# EAGLE library part PICO-12_RA_1.50MM (library all-connectors)
PICO-12_RA_1.50MM Molex 1.50mm pitch / Wire-to-board system offers an ideal combination of low profile, high current and durable locking for any application requiring space savings and secure mating retention
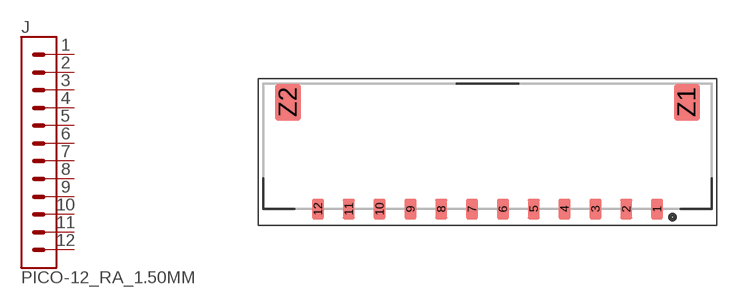
[diagram p29: symbol with the pads of PICO-12_RA_1.50MM; footprint PICO-12_RA_1.50MM]

Designator prefix J

## PICO-12_RA_1.50MM  [PICO-12_RA_1.50MM]
1  1  pas
2  2  pas
3  3  pas
4  4  pas
5  5  pas
6  6  pas
7  7  pas
8  8  pas
9  9  pas
10  10  pas
11  11  pas
12  12  pas

## Footprint PICO-12_RA_1.50MM (pad centres in mm)
https://www.molex.com/pdm_docs/sd/5040500291_sd.pdf
smd 0.6 x 1: 1 8.25,-3; 2 6.75,-3; 3 5.25,-3; 4 3.75,-3; 5 2.25,-3; 6 0.75,-3; 7 -0.75,-3; 8 -2.25,-3; 9 -3.75,-3; 10 -5.25,-3; 11 -6.75,-3; 12 -8.25,-3
smd 1.25 x 1.8: Z1 9.7,2.2; Z2 -9.7,2.2